# EAGLE library part 233-404 (library JLB6_Connec)
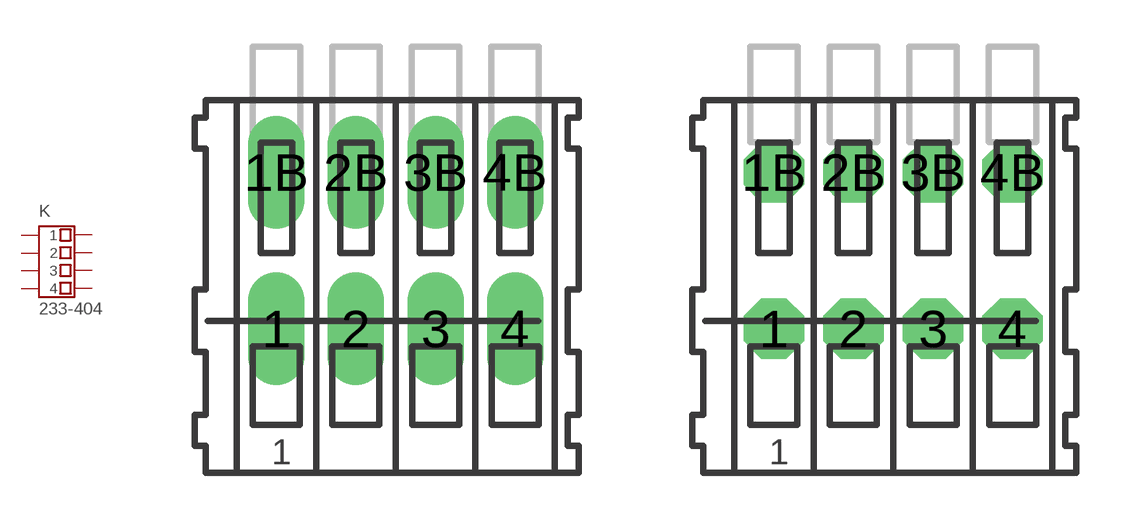
[diagram p54: symbol with the pads of 233-404; footprints 233-404, 233-404-ROUND]

Designator prefix K

## 233-404  [233-404]
1  1  pas
1B  B-1  pas
2  2  pas
2B  B-2  pas
3  3  pas
3B  B-3  pas
4  4  pas
4B  B-4  pas

## 233-4042.54  [233-404-ROUND]
Pads as for 233-404

## 233-4042.50  [233-204-ROUND-250]
Pads as for 233-404

## Footprint 233-404 (pad centres in mm)
drill 1.2 long: 1 -3.81,-2.5; 1B -3.81,2.5; 2 -1.27,-2.5; 2B -1.27,2.5; 3 1.27,-2.5; 3B 1.27,2.5; 4 3.81,-2.5; 4B 3.81,2.5

## Footprint 233-404-ROUND (pad centres in mm)
drill 1.2 pad 1.93 octagon: 1 -3.81,-2.5; 1B -3.81,2.5; 2 -1.27,-2.5; 2B -1.27,2.5; 3 1.27,-2.5; 3B 1.27,2.5; 4 3.81,-2.5; 4B 3.81,2.5

## Footprint 233-204-ROUND-250 (pad centres in mm)
drill 1.2 octagon: 1 -3.75,-2.5; 1B -3.75,2.5; 2 -1.25,-2.5; 2B -1.25,2.5; 3 1.25,-2.5; 3B 1.25,2.5; 4 3.75,-2.5; 4B 3.75,2.5